# EAGLE library part MYDIYCNC_MOTOR_CONTROLLER (library teelsys-0.2)
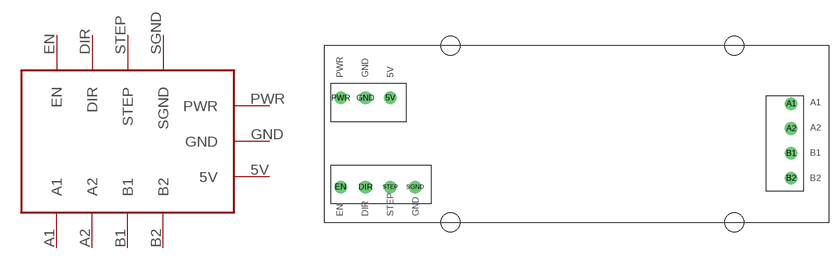
[diagram p11: symbol with the pads of MYDIYCNC_MOTOR_CONTROLLER; footprint MYDIYCNC_MOTOR_CONTROLLER]

Designator prefix -

## MYDIYCNC_MOTOR_CONTROLLER  [MYDIYCNC_MOTOR_CONTROLLER]
5V  5V
A1  A1
A2  A2
B1  B1
B2  B2
DIR  DIR
EN  EN
GND  GND
PWR  PWR
SGND  SGND
STEP  STEP

## Footprint MYDIYCNC_MOTOR_CONTROLLER (pad centres in mm)
drill 1.143 pad 2.54: 5V 13.302,25.07; A1 93.98,23.89; A2 93.98,18.89; B1 93.98,13.89; B2 93.98,8.89; DIR 8.302,7.112; EN 3.302,7.112; GND 8.302,25.07; PWR 3.302,25.07; SGND 18.302,7.112; STEP 13.302,7.112
hole 3.81 at 25.4,0
hole 3.81 at 82.55,35.56
hole 3.81 at 25.4,35.56
hole 3.81 at 82.55,0